# Altium schematic symbol library JCM3012S05.SchLib: 1 symbol
Pins are listed as number, name and electrical type; pins without a type are passive.

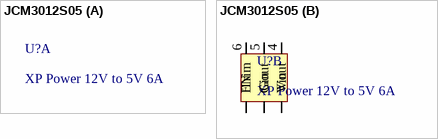
[diagram p0: symbol JCM3012S05]

## JCM3012S05
designator U?, comment XP Power 12V to 5V 6A
part B pins: 1 Vin, 2 Gin, 3 EN, 4 Vout, 5 Gout, 6 Trim